# Altium integrated library Xilinx Virtex-II Pro X.IntLib: 24 symbols (part 12 of 18)
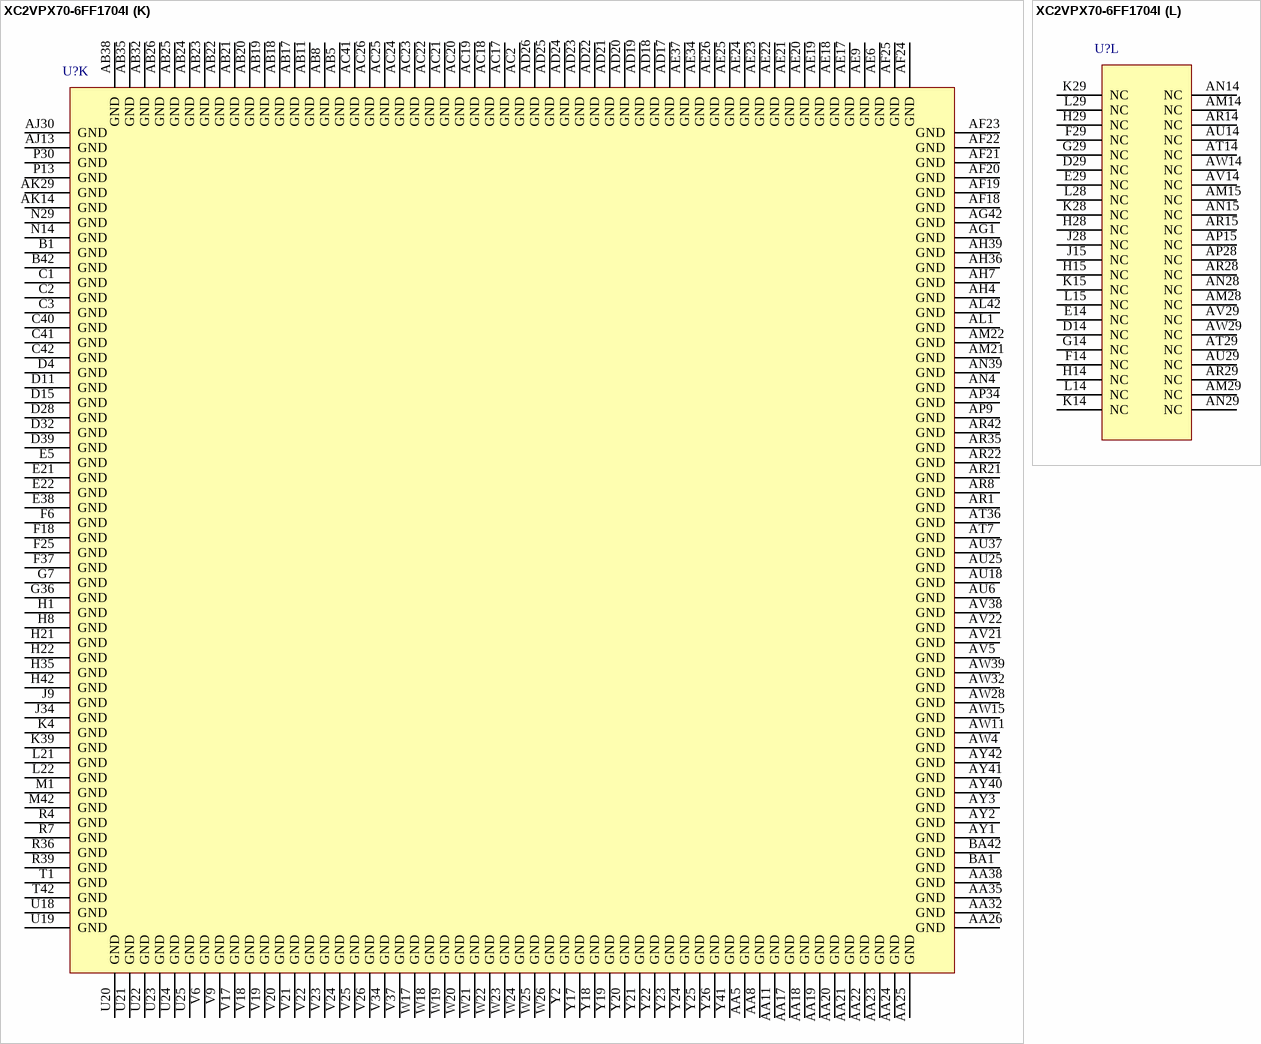
[diagram p166: symbol XC2VPX70-6FF1704I]

## XC2VPX70-6FF1704I
designator U?
Virtex-II Pro X Platform FPGA, 1704-Ball FFBGA, Speed Grade 6, 992 User I/Os, Industrial Grade; User_I/Os: 992; Published: 19-Mar-2004; LatestRevisionDate: 13-Apr-2006; LatestRevisionNote: IPC-7351 Footprint Added.; DatasheetVersion: ver4.5, Oct-2005; PackageVersion: ver1.0, Oct-2002; PackageReference: FF1704; Publisher: Altium Limited; PackageDescription: 1704-Ball Flip Chip Fine Pitch Ball Grid Array (FF1704); Code_JEDEC: MS-034-AAV-1 (Depopulated); ComponentLink1Description: Manufacturer Link; ComponentLink1URL: http://www.xilinx.com/products/silicon_solutions/fpgas/virtex/virtex_ii_pro_fpgas/index.htm; ComponentLink2Description: Datasheet; ComponentLink2URL: http://direct.xilinx.com/bvdocs/publications/ds083.pdf
footprint FF1704 (BGA, 1704-Leads, Body 42.5x42.5mm, Pitch 1mm)
3D model XC2VPX70-FF1704 (1704-Ball Flip Chip Fine Pitch Ball Grid Array (FF1704))
signal-integrity model XC2VPX70_FF1704 (Virtex-II Pro X)
part A pins: C23 IO_L73N_0 (io), C24 IO_L65P_0 (io), C25 IO_L57N_0 (io), C26 IO_L57P_0/VREF_0 (io), C28 IO_L38P_0 (io), C29 IO_L38N_0 (io), C30 IO_L35P_0 (io), C32 IO_L20P_0 (io), C33 IO_L20N_0 (io), C34 IO_L03N_0 (io), D23 IO_L73P_0 (io), D24 IO_L65N_0 (io), D25 VCCO_0 (power), D26 IO_L53_0/No_Pair (io), D27 IO_L50_0/No_Pair (io), D30 IO_L35N_0 (io), D31 IO_L27N_0 (io), D33 IO_L08P_0 (io), D34 IO_L03P_0/VREF_0 (io), E23 IO_L69N_0 (io), E24 IO_L64N_0 (io), E25 IO_L56P_0 (io), E26 IO_L56N_0 (io), E27 IO_L45N_0 (io), E28 IO_L37N_0 (io), E30 IO_L34N_0 (io), E31 IO_L27P_0/VREF_0 (io), E32 IO_L19N_0 (io), E33 IO_L08N_0 (io), E34 IO_L02P_0 (io), F23 IO_L69P_0/VREF_0 (io), F24 IO_L64P_0 (io), F26 IO_L49N_0 (io), F27 IO_L45P_0/VREF_0 (io), F28 IO_L37P_0 (io), F30 IO_L34P_0 (io), F31 IO_L26P_0 (io), F32 IO_L19P_0 (io), F33 IO_L07N_0 (io), F34 IO_L02N_0 (io), G23 VCCO_0 (power), G24 IO_L60N_0 (io), G25 IO_L55N_0 (io), G26 IO_L49P_0 (io), G27 IO_L44P_0 (io), G28 VCCO_0 (power), G30 IO_L30N_0 (io), G31 IO_L26N_0 (io), G32 VCCO_0 (power), G33 IO_L07P_0 (io), G34 IO_L01N_0/VRP_0 (io), H23 IO_L68P_0 (io), H24 IO_L60P_0 (io), H25 IO_L55P_0 (io), H26 IO_L48N_0 (io), H27 IO_L44N_0 (io), H30 IO_L30P_0 (io), H31 IO_L25N_0 (io), H32 IO_L09N_0 (io), H33 IO_L06N_0 (io), H34 IO_L01P_0/VRN_0 (io), J22 IO_L74P_0/GCLK6S (io), J23 IO_L68N_0 (io), J24 IO_L59N_0 (io), J25 VCCO_0 (power), J26 IO_L48P_0 (io), J27 IO_L43N_0 (io), J29 VCCO_0 (power), J30 IO_L29N_0 (io), J31 IO_L25P_0 (io), J32 IO_L09P_0/VREF_0 (io), J33 IO_L06P_0 (io), K22 IO_L74N_0/GCLK7P (io), K23 IO_L67N_0 (io), K24 IO_L59P_0 (io), K25 IO_L54N_0 (io), K26 IO_L47P_0 (io), K27 IO_L43P_0 (io), K30 IO_L29P_0 (io), K31 IO_L21N_0 (io), K32 IO_L05_0/No_Pair (io), L23 IO_L67P_0 (io), L24 IO_L58N_0 (io), L25 IO_L54P_0 (io), L26 IO_L47N_0 (io), L27 IO_L39N_0 (io), L30 IO_L28N_0 (io), L31 IO_L21P_0 (io), M22 IO_L66N_0 (io), M23 IO_L66P_0/VREF_0 (io), M24 IO_L58P_0 (io), M25 IO_L46N_0 (io), M26 IO_L46P_0 (io), M27 IO_L39P_0 (io), M28 IO_L36N_0 (io), M29 IO_L36P_0/VREF_0 (io), M30 IO_L28P_0 (io), P22 VCCO_0 (power), P23 VCCO_0 (power), P24 VCCO_0 (power), P25 VCCO_0 (power), P26 VCCO_0 (power), R22 VCCO_0 (power), R23 VCCO_0 (power), R24 VCCO_0 (power), R25 VCCO_0 (power)
part B pins: C9 IO_L03P_1 (io), C10 IO_L20P_1 (io), C11 IO_L20N_1 (io), C13 IO_L35N_1 (io), C14 IO_L38P_1 (io), C15 IO_L38N_1 (io), C17 IO_L57N_1/VREF_1 (io), C18 IO_L57P_1 (io), C19 IO_L65N_1 (io), C20 IO_L73P_1 (io), D9 IO_L03N_1/VREF_1 (io), D10 IO_L08N_1 (io), D12 IO_L27P_1 (io), D13 IO_L35P_1 (io), D16 IO_L50_1/No_Pair (io), D17 IO_L53_1/No_Pair (io), D18 VCCO_1 (power), D19 IO_L65P_1 (io), D20 IO_L73N_1 (io), E9 IO_L02N_1 (io), E10 IO_L08P_1 (io), E11 IO_L19P_1 (io), E12 IO_L27N_1/VREF_1 (io), E13 IO_L34P_1 (io), E15 IO_L37P_1 (io), E16 IO_L45P_1 (io), E17 IO_L56P_1 (io), E18 IO_L56N_1 (io), E19 IO_L64P_1 (io), E20 IO_L69P_1 (io), F9 IO_L02P_1 (io), F10 IO_L07P_1 (io), F11 IO_L19N_1 (io), F12 IO_L26N_1 (io), F13 IO_L34N_1 (io), F15 IO_L37N_1 (io), F17 IO_L49P_1 (io), F19 IO_L64N_1 (io), F20 IO_L69N_1/VREF_1 (io), F21 IO_L75P_1/GCLK2S (io), G9 IO_L01P_1/VRN_1 (io), G10 IO_L07N_1 (io), G11 VCCO_1 (power), G12 IO_L26P_1 (io), G13 IO_L30P_1 (io), G15 VCCO_1 (power), G17 IO_L49N_1 (io), G18 IO_L55P_1 (io), G19 IO_L60P_1 (io), G20 VCCO_1 (power), G21 IO_L75N_1/GCLK3P (io), H9 IO_L01N_1/VRP_1 (io), H10 IO_L06P_1 (io), H11 IO_L09P_1 (io), H12 IO_L25P_1 (io), H13 IO_L30N_1 (io), H16 IO_L44P_1 (io), H17 IO_L48P_1 (io), H18 IO_L55N_1 (io), H19 IO_L60N_1 (io), H20 IO_L68N_1 (io), J10 IO_L06N_1 (io), J11 IO_L09N_1/VREF_1 (io), J12 IO_L25N_1 (io), J13 IO_L29P_1 (io), J14 VCCO_1 (power), J16 IO_L43P_1 (io), J17 IO_L48N_1 (io), J18 VCCO_1 (power), J19 IO_L59P_1 (io), J20 IO_L68P_1 (io), J21 IO_L74N_1/GCLK1P (io), K11 IO_L05_1/No_Pair (io), K12 IO_L21P_1 (io), K13 IO_L29N_1 (io), K16 IO_L43N_1 (io), K17 IO_L47N_1 (io), K18 IO_L54P_1 (io), K19 IO_L59N_1 (io), K20 IO_L67P_1 (io), K21 IO_L74P_1/GCLK0S (io), L12 IO_L21N_1 (io), L13 IO_L28P_1 (io), L16 IO_L39P_1 (io), L17 IO_L47P_1 (io), L18 IO_L54N_1 (io), L19 IO_L58P_1 (io), L20 IO_L67N_1 (io), M13 IO_L28N_1 (io), M14 IO_L36N_1/VREF_1 (io), M15 IO_L36P_1 (io), M16 IO_L39N_1 (io), M17 IO_L46N_1 (io), M18 IO_L46P_1 (io), M19 IO_L58N_1 (io), M20 IO_L66N_1/VREF_1 (io), M21 IO_L66P_1 (io), P17 VCCO_1 (power), P18 VCCO_1 (power), P19 VCCO_1 (power), P20 VCCO_1 (power), P21 VCCO_1 (power), R18 VCCO_1 (power), R19 VCCO_1 (power), R20 VCCO_1 (power), R21 VCCO_1 (power)
part C pins: AA3 IO_L90N_2 (io), AA4 IO_L90P_2 (io), AA6 IO_L88N_2/VREF_2 (io), AA7 IO_L88P_2 (io), AA9 IO_L87N_2 (io), AA10 IO_L87P_2 (io), AA12 IO_L89N_2 (io), AA14 VCCO_2 (power), AA15 VCCO_2 (power), AB12 IO_L89P_2 (io), C5 IO_L01N_2/VRP_2 (io), C6 IO_L01P_2/VRN_2 (io), D1 IO_L06N_2 (io), D2 IO_L06P_2 (io), D3 IO_L05N_2 (io), D6 IO_L03P_2 (io), D7 IO_L02P_2 (io), E1 IO_L73N_2 (io), E2 IO_L73P_2 (io), E3 IO_L05P_2 (io), E6 IO_L03N_2 (io), E7 IO_L02N_2 (io), F1 IO_L75N_2 (io), F2 IO_L75P_2 (io), F3 IO_L74P_2 (io), F4 IO_L74N_2 (io), F5 VCCO_2 (power), F7 IO_L04P_2 (io), G1 IO_L77P_2 (io), G2 IO_L77N_2 (io), G3 IO_L76N_2/VREF_2 (io), G4 IO_L76P_2 (io), G5 IO_L78N_2 (io), G6 IO_L04N_2/VREF_2 (io), H2 IO_L80P_2 (io), H3 IO_L80N_2 (io), H4 IO_L79N_2 (io), H5 IO_L79P_2 (io), H6 IO_L78P_2 (io), H7 IO_L81N_2 (io), J1 IO_L84N_2 (io), J2 IO_L84P_2 (io), J3 VCCO_2 (power), J4 IO_L83P_2 (io), J5 IO_L83N_2 (io), J6 IO_L82N_2/VREF_2 (io), J7 IO_L82P_2 (io), J8 IO_L81P_2 (io), K1 IO_L10P_2 (io), K2 IO_L10N_2/VREF_2 (io), K3 IO_L13N_2 (io), K5 IO_L08P_2 (io), K6 IO_L08N_2 (io), K7 IO_L09P_2 (io), K8 IO_L09N_2 (io), K9 IO_L07N_2 (io), L1 IO_L15N_2 (io), L2 IO_L15P_2 (io), L3 IO_L13P_2 (io), L4 IO_L14P_2 (io), L5 IO_L14N_2 (io), L6 IO_L12N_2 (io), L7 IO_L12P_2 (io), L8 IO_L11N_2 (io), L9 IO_L11P_2 (io), L10 IO_L07P_2 (io), M2 IO_L19N_2 (io), M3 IO_L19P_2 (io), M4 IO_L20N_2 (io), M5 IO_L20P_2 (io), M6 VCCO_2 (power), M7 IO_L16N_2/VREF_2 (io), M8 IO_L16P_2 (io), M9 IO_L18N_2 (io), M10 IO_L18P_2 (io), M11 IO_L17N_2 (io), M12 IO_L17P_2 (io), N1 IO_L25N_2 (io), N2 IO_L25P_2 (io), N3 IO_L24N_2 (io), N4 IO_L24P_2 (io), N5 IO_L22N_2/VREF_2 (io), N6 IO_L22P_2 (io), N7 IO_L21N_2 (io), N8 IO_L21P_2 (io), N9 IO_L23N_2 (io), N10 IO_L23P_2 (io), N11 IO_L26N_2 (io), N12 IO_L26P_2 (io), P1 IO_L31N_2 (io), P2 IO_L31P_2 (io), P3 IO_L34N_2/VREF_2 (io), P4 VCCO_2 (power), P5 IO_L30N_2 (io), P6 IO_L30P_2 (io), P7 IO_L28N_2/VREF_2 (io), P8 IO_L28P_2 (io), P9 IO_L27N_2 (io), P10 IO_L27P_2 (io), P11 IO_L29N_2 (io), P12 IO_L29P_2 (io), R1 IO_L35N_2 (io), R2 IO_L35P_2 (io), R3 IO_L34P_2 (io), R5 IO_L33N_2 (io), R6 IO_L33P_2 (io), R8 IO_L38P_2 (io), R9 IO_L32N_2 (io), R10 IO_L32P_2 (io), R11 IO_L36N_2 (io), R12 IO_L36P_2 (io), R14 VCCO_2 (power), T2 IO_L40N_2/VREF_2 (io), T3 IO_L40P_2 (io), T4 IO_L39N_2 (io), T5 IO_L39P_2 (io), T6 IO_L37N_2 (io), T7 IO_L37P_2 (io), T8 IO_L38N_2 (io), T9 VCCO_2 (power), T10 IO_L41N_2 (io), T11 IO_L41P_2 (io), T12 IO_L47N_2 (io), T14 VCCO_2 (power), T15 VCCO_2 (power), U1 IO_L46N_2/VREF_2 (io), U2 IO_L46P_2 (io), U3 IO_L45N_2 (io), U4 IO_L45P_2 (io), U5 IO_L43N_2 (io), U6 IO_L43P_2 (io), U7 IO_L42N_2 (io), U8 IO_L42P_2 (io), U9 IO_L44N_2 (io), U10 IO_L44P_2 (io), U11 IO_L50N_2 (io), U12 IO_L47P_2 (io), U14 VCCO_2 (power), U15 VCCO_2 (power), V1 IO_L52N_2/VREF_2 (io), V2 IO_L52P_2 (io), V3 VCCO_2 (power), V4 IO_L51N_2 (io), V5 IO_L51P_2 (io), V7 IO_L49N_2 (io), V8 IO_L49P_2 (io), V10 IO_L48N_2 (io), V11 IO_L48P_2 (io), V12 IO_L50P_2 (io), V14 VCCO_2 (power), V15 VCCO_2 (power), W1 IO_L58N_2/VREF_2 (io), W2 IO_L58P_2 (io), W3 IO_L57N_2 (io), W4 IO_L57P_2 (io), W5 IO_L55N_2 (io), W6 IO_L55P_2 (io), W7 IO_L54N_2 (io), W8 IO_L54P_2 (io), W9 IO_L53N_2 (io), W10 IO_L53P_2 (io), W11 IO_L56N_2 (io), W12 IO_L56P_2 (io), W14 VCCO_2 (power), W15 VCCO_2 (power), Y3 IO_L85N_2 (io), Y4 IO_L85P_2 (io), Y5 VCCO_2 (power), Y6 IO_L60N_2 (io), Y7 IO_L60P_2 (io), Y8 VCCO_2 (power), Y9 IO_L59N_2 (io), Y10 IO_L59P_2 (io), Y11 IO_L86N_2 (io), Y12 IO_L86P_2 (io), Y14 VCCO_2 (power), Y15 VCCO_2 (power)
part D pins: AB3 IO_L90N_3 (io), AB4 IO_L90P_3 (io), AB6 IO_L89N_3 (io), AB7 IO_L89P_3 (io), AB9 IO_L88N_3 (io), AB10 IO_L88P_3 (io), AB14 VCCO_3 (power), AB15 VCCO_3 (power), AC3 IO_L87N_3/VREF_3 (io), AC4 IO_L87P_3 (io), AC5 VCCO_3 (power), AC6 IO_L85N_3 (io), AC7 IO_L85P_3 (io), AC8 VCCO_3 (power), AC9 IO_L60N_3 (io), AC10 IO_L60P_3 (io), AC11 IO_L86N_3 (io), AC12 IO_L86P_3 (io), AC14 VCCO_3 (power), AC15 VCCO_3 (power), AD1 IO_L58N_3 (io), AD2 IO_L58P_3 (io), AD3 IO_L57N_3/VREF_3 (io), AD4 IO_L57P_3 (io), AD5 IO_L55N_3 (io), AD6 IO_L55P_3 (io), AD7 IO_L54N_3 (io), AD8 IO_L54P_3 (io), AD9 IO_L59N_3 (io), AD10 IO_L59P_3 (io), AD11 IO_L56N_3 (io), AD12 IO_L56P_3 (io), AD14 VCCO_3 (power), AD15 VCCO_3 (power), AE1 IO_L52N_3 (io), AE2 IO_L52P_3 (io), AE3 VCCO_3 (power), AE4 IO_L51N_3/VREF_3 (io), AE5 IO_L51P_3 (io), AE7 IO_L49N_3 (io), AE8 IO_L49P_3 (io), AE10 IO_L53N_3 (io), AE11 IO_L53P_3 (io), AE12 IO_L50P_3 (io), AE14 VCCO_3 (power), AE15 VCCO_3 (power), AF1 IO_L48N_3 (io), AF2 IO_L48P_3 (io), AF3 IO_L46N_3 (io), AF4 IO_L46P_3 (io), AF5 IO_L45N_3/VREF_3 (io), AF6 IO_L45P_3 (io), AF7 IO_L44N_3 (io), AF8 IO_L44P_3 (io), AF9 IO_L43N_3 (io), AF10 IO_L43P_3 (io), AF11 IO_L50N_3 (io), AF12 IO_L47P_3 (io), AF14 VCCO_3 (power), AF15 VCCO_3 (power), AG2 IO_L42N_3 (io), AG3 IO_L42P_3 (io), AG4 IO_L40N_3 (io), AG5 IO_L40P_3 (io), AG6 IO_L39N_3/VREF_3 (io), AG7 IO_L39P_3 (io), AG8 IO_L38N_3 (io), AG9 VCCO_3 (power), AG10 IO_L41N_3 (io), AG11 IO_L41P_3 (io), AG12 IO_L47N_3 (io), AG14 VCCO_3 (power), AG15 VCCO_3 (power), AH1 IO_L37N_3 (io), AH2 IO_L37P_3 (io), AH3 IO_L36N_3 (io), AH5 IO_L34N_3 (io), AH6 IO_L34P_3 (io), AH8 IO_L38P_3 (io), AH9 IO_L33N_3/VREF_3 (io), AH10 IO_L33P_3 (io), AH11 IO_L35N_3 (io), AH12 IO_L35P_3 (io), AH14 VCCO_3 (power), AJ1 IO_L31N_3 (io), AJ2 IO_L31P_3 (io), AJ3 IO_L36P_3 (io), AJ4 VCCO_3 (power), AJ5 IO_L30N_3 (io), AJ6 IO_L30P_3 (io), AJ7 IO_L28N_3 (io), AJ8 IO_L28P_3 (io), AJ9 IO_L29N_3 (io), AJ10 IO_L29P_3 (io), AJ11 IO_L32N_3 (io), AJ12 IO_L32P_3 (io), AK1 IO_L27N_3/VREF_3 (io), AK2 IO_L27P_3 (io), AK3 IO_L25N_3 (io), AK4 IO_L25P_3 (io), AK5 IO_L24N_3 (io), AK6 IO_L24P_3 (io), AK7 IO_L22N_3 (io), AK8 IO_L22P_3 (io), AK9 IO_L23N_3 (io), AK10 IO_L23P_3 (io), AK11 IO_L26N_3 (io), AK12 IO_L26P_3 (io), AL2 IO_L21N_3/VREF_3 (io), AL3 IO_L21P_3 (io), AL4 IO_L19N_3 (io), AL5 IO_L19P_3 (io), AL6 VCCO_3 (power), AL7 IO_L18N_3 (io), AL8 IO_L18P_3 (io), AL9 IO_L17N_3 (io), AL10 IO_L17P_3 (io), AL11 IO_L20N_3 (io), AL12 IO_L20P_3 (io), AM1 IO_L16N_3 (io), AM2 IO_L16P_3 (io), AM3 IO_L15N_3/VREF_3 (io), AM4 IO_L13N_3 (io), AM5 IO_L13P_3 (io), AM6 IO_L12N_3 (io), AM7 IO_L12P_3 (io), AM8 IO_L14N_3 (io), AM9 IO_L14P_3 (io), AM10 IO_L11P_3 (io), AN1 IO_L10N_3 (io), AN2 IO_L10P_3 (io), AN3 IO_L15P_3 (io), AN5 IO_L09N_3/VREF_3 (io), AN6 IO_L09P_3 (io), AN7 IO_L08N_3 (io), AN8 IO_L08P_3 (io), AN9 IO_L11N_3 (io), AP1 IO_L07N_3 (io), AP2 IO_L07P_3 (io), AP3 VCCO_3 (power), AP4 IO_L84N_3 (io), AP5 IO_L84P_3 (io), AP6 IO_L82N_3 (io), AP7 IO_L82P_3 (io), AP8 IO_L83P_3 (io), AR2 IO_L81N_3/VREF_3 (io), AR3 IO_L81P_3 (io), AR4 IO_L79N_3 (io), AR5 IO_L79P_3 (io), AR6 IO_L80P_3 (io), AR7 IO_L83N_3 (io), AT1 IO_L78N_3 (io), AT2 IO_L78P_3 (io), AT3 IO_L77N_3 (io), AT4 IO_L77P_3 (io), AT5 IO_L80N_3 (io), AT6 IO_L04N_3 (io), AT8 IO_L05N_3 (io), AU1 IO_L76N_3 (io), AU2 IO_L76P_3 (io), AU3 IO_L75N_3/VREF_3 (io), AU4 IO_L75P_3 (io), AU5 VCCO_3 (power), AU7 IO_L04P_3 (io), AU8 IO_L05P_3 (io), AV1 IO_L73N_3 (io), AV2 IO_L73P_3 (io), AV3 IO_L74N_3 (io), AV6 IO_L01N_3/VRP_3 (io), AV7 IO_L02N_3 (io), AW1 IO_L06N_3 (io), AW2 IO_L06P_3 (io), AW3 IO_L74P_3 (io), AW6 IO_L01P_3/VRN_3 (io), AW7 IO_L02P_3 (io), AY5 IO_L03N_3/VREF_3 (io), AY6 IO_L03P_3 (io)
part E pins: AH18 VCCO_4 (power), AH19 VCCO_4 (power), AH20 VCCO_4 (power), AH21 VCCO_4 (power), AJ17 VCCO_4 (power), AJ18 VCCO_4 (power), AJ19 VCCO_4 (power), AJ20 VCCO_4 (power), AJ21 VCCO_4 (power), AL13 IO_L28P_4 (io), AL14 IO_L36P_4/VREF_4 (io), AL15 IO_L36N_4 (io), AL16 IO_L39P_4 (io), AL17 IO_L46P_4 (io), AL18 IO_L46N_4 (io), AL19 IO_L58P_4 (io), AL20 IO_L66P_4/VREF_4 (io), AL21 IO_L66N_4 (io), AM12 IO_L21P_4 (io), AM13 IO_L28N_4 (io), AM16 IO_L39N_4 (io), AM17 IO_L47N_4 (io), AM18 IO_L54P_4 (io), AM19 IO_L58N_4 (io), AM20 IO_L67P_4 (io), AN11 IO_L05_4/No_Pair (io), AN12 IO_L21N_4 (io), AN13 IO_L29P_4 (io), AN16 IO_L43P_4 (io), AN17 IO_L47P_4 (io), AN18 IO_L54N_4 (io), AN19 IO_L59P_4 (io), AN20 IO_L67N_4 (io), AN21 IO_L74N_4/GCLK3S (io), AP10 IO_L06P_4/VRN_4 (io), AP11 IO_L09P_4/VREF_4 (io), AP12 IO_L25P_4 (io), AP13 IO_L29N_4 (io), AP14 VCCO_4 (power), AP16 IO_L43N_4 (io), AP17 IO_L48P_4 (io), AP18 VCCO_4 (power), AP19 IO_L59N_4 (io), AP20 IO_L68N_4 (io), AP21 IO_L74P_4/GCLK2P (io), AR9 IO_L01P_4/INIT_B (io), AR10 IO_L06N_4/VRP_4 (io), AR11 IO_L09N_4 (io), AR12 IO_L25N_4 (io), AR13 IO_L30P_4 (io), AR16 IO_L44N_4 (io), AR17 IO_L48N_4 (io), AR18 IO_L55P_4 (io), AR19 IO_L60P_4 (io), AR20 IO_L68P_4 (io), AT9 IO_L01N_4/DOUT (io), AT10 IO_L07P_4/VREF_4 (io), AT11 VCCO_4 (power), AT12 IO_L26N_4 (io), AT13 IO_L30N_4 (io), AT15 VCCO_4 (power), AT16 IO_L44P_4 (io), AT17 IO_L49P_4 (io), AT18 IO_L55N_4 (io), AT19 IO_L60N_4 (io), AT20 VCCO_4 (power), AT21 IO_L75P_4/GCLK0P (io), AU9 IO_L02N_4/D0 (io), AU10 IO_L07N_4 (io), AU11 IO_L19P_4 (io), AU12 IO_L26P_4 (io), AU13 IO_L34P_4 (io), AU15 IO_L37P_4 (io), AU16 IO_L45P_4/VREF_4 (io), AU17 IO_L49N_4 (io), AU19 IO_L64P_4 (io), AU20 IO_L69P_4/VREF_4 (io), AU21 IO_L75N_4/GCLK1S (io), AV9 IO_L02P_4/D1 (io), AV10 IO_L08N_4 (io), AV11 IO_L19N_4 (io), AV12 IO_L27P_4/VREF_4 (io), AV13 IO_L34N_4 (io), AV15 IO_L37N_4 (io), AV16 IO_L45N_4 (io), AV17 IO_L56N_4 (io), AV18 IO_L56P_4 (io), AV19 IO_L64N_4 (io), AV20 IO_L69N_4 (io), AW9 IO_L03P_4/D3 (io), AW10 IO_L08P_4 (io), AW12 IO_L27N_4 (io), AW13 IO_L35N_4 (io), AW16 IO_L50_4/No_Pair (io), AW17 IO_L53_4/No_Pair (io), AW18 VCCO_4 (power), AW19 IO_L65N_4 (io), AW20 IO_L73P_4 (io), AY9 IO_L03N_4/D2 (io), AY10 IO_L20N_4 (io), AY11 IO_L20P_4 (io), AY13 IO_L35P_4 (io), AY14 IO_L38N_4 (io), AY15 IO_L38P_4 (io), AY17 IO_L57P_4/VREF_4 (io), AY18 IO_L57N_4 (io), AY19 IO_L65P_4 (io), AY20 IO_L73N_4 (io)
part F pins: AH22 VCCO_5 (power), AH23 VCCO_5 (power), AH24 VCCO_5 (power), AH25 VCCO_5 (power), AJ22 VCCO_5 (power), AJ23 VCCO_5 (power), AJ24 VCCO_5 (power), AJ25 VCCO_5 (power), AJ26 VCCO_5 (power), AL22 IO_L66P_5 (io), AL23 IO_L66N_5/VREF_5 (io), AL24 IO_L58N_5 (io), AL25 IO_L46P_5 (io), AL26 IO_L46N_5 (io), AL27 IO_L39N_5 (io), AL28 IO_L36P_5 (io), AL29 IO_L36N_5/VREF_5 (io), AL30 IO_L28N_5 (io), AM23 IO_L67N_5 (io), AM24 IO_L58P_5 (io), AM25 IO_L54N_5 (io), AM26 IO_L47P_5 (io), AM27 IO_L39P_5 (io), AM30 IO_L28P_5 (io), AM31 IO_L21N_5 (io), AN22 IO_L74P_5/GCLK4P (io), AN23 IO_L67P_5 (io), AN24 IO_L59N_5 (io), AN25 IO_L54P_5 (io), AN26 IO_L47N_5 (io), AN27 IO_L43N_5 (io), AN30 IO_L29N_5 (io), AN31 IO_L21P_5 (io), AN32 IO_L05_5/No_Pair (io), AP22 IO_L74N_5/GCLK5S (io), AP23 IO_L68P_5 (io), AP24 IO_L59P_5 (io), AP25 VCCO_5 (power), AP26 IO_L48N_5 (io), AP27 IO_L43P_5 (io), AP29 VCCO_5 (power), AP30 IO_L29P_5 (io), AP31 IO_L25N_5 (io), AP32 IO_L09N_5/VREF_5 (io), AP33 IO_L06N_5/VRP_5 (io), AR23 IO_L68N_5 (io), AR24 IO_L60N_5 (io), AR25 IO_L55N_5 (io), AR26 IO_L48P_5 (io), AR27 IO_L44P_5 (io), AR30 IO_L30N_5 (io), AR31 IO_L25P_5 (io), AR32 IO_L09P_5 (io), AR33 IO_L06P_5/VRN_5 (io), AR34 IO_L01N_5/RDWR_B (io), AT23 VCCO_5 (power), AT24 IO_L60P_5 (io), AT25 IO_L55P_5 (io), AT26 IO_L49N_5 (io), AT27 IO_L44N_5 (io), AT28 VCCO_5 (power), AT30 IO_L30P_5 (io), AT31 IO_L26P_5 (io), AT32 VCCO_5 (power), AT33 IO_L07N_5/VREF_5 (io), AT34 IO_L01P_5/CS_B (io), AU23 IO_L69N_5/VREF_5 (io), AU24 IO_L64N_5 (io), AU26 IO_L49P_5 (io), AU27 IO_L45N_5/VREF_5 (io), AU28 IO_L37N_5 (io), AU30 IO_L34N_5 (io), AU31 IO_L26N_5 (io), AU32 IO_L19N_5 (io), AU33 IO_L07P_5 (io), AU34 IO_L02P_5/D7 (io), AV23 IO_L69P_5 (io), AV24 IO_L64P_5 (io), AV25 IO_L56N_5 (io), AV26 IO_L56P_5 (io), AV27 IO_L45P_5 (io), AV28 IO_L37P_5 (io), AV30 IO_L34P_5 (io), AV31 IO_L27N_5/VREF_5 (io), AV32 IO_L19P_5 (io), AV33 IO_L08P_5 (io), AV34 IO_L02N_5/D6 (io), AW23 IO_L73N_5 (io), AW24 IO_L65P_5 (io), AW25 VCCO_5 (power), AW26 IO_L53_5/No_Pair (io), AW27 IO_L50_5/No_Pair (io), AW30 IO_L35P_5 (io), AW31 IO_L27P_5 (io), AW33 IO_L08N_5 (io), AW34 IO_L03N_5/D4 (io), AY23 IO_L73P_5 (io), AY24 IO_L65N_5 (io), AY25 IO_L57P_5 (io), AY26 IO_L57N_5/VREF_5 (io), AY28 IO_L38N_5 (io), AY29 IO_L38P_5 (io), AY30 IO_L35N_5 (io), AY32 IO_L20N_5 (io), AY33 IO_L20P_5 (io), AY34 IO_L03P_5/D5 (io)
part G pins: AB28 VCCO_6 (power), AB29 VCCO_6 (power), AB33 IO_L88P_6 (io), AB34 IO_L88N_6 (io), AB36 IO_L89P_6 (io), AB37 IO_L89N_6 (io), AB39 IO_L90P_6 (io), AB40 IO_L90N_6 (io), AC28 VCCO_6 (power), AC29 VCCO_6 (power), AC31 IO_L86P_6 (io), AC32 IO_L86N_6 (io), AC33 IO_L60P_6 (io), AC34 IO_L60N_6 (io), AC35 VCCO_6 (power), AC36 IO_L85P_6 (io), AC37 IO_L85N_6 (io), AC38 VCCO_6 (power), AC39 IO_L87P_6 (io), AC40 IO_L87N_6/VREF_6 (io), AD28 VCCO_6 (power), AD29 VCCO_6 (power), AD31 IO_L56P_6 (io), AD32 IO_L56N_6 (io), AD33 IO_L59P_6 (io), AD34 IO_L59N_6 (io), AD35 IO_L54P_6 (io), AD36 IO_L54N_6 (io), AD37 IO_L55P_6 (io), AD38 IO_L55N_6 (io), AD39 IO_L57P_6 (io), AD40 IO_L57N_6/VREF_6 (io), AD41 IO_L58P_6 (io), AD42 IO_L58N_6 (io), AE28 VCCO_6 (power), AE29 VCCO_6 (power), AE31 IO_L50P_6 (io), AE32 IO_L53P_6 (io), AE33 IO_L53N_6 (io), AE35 IO_L49P_6 (io), AE36 IO_L49N_6 (io), AE38 IO_L51P_6 (io), AE39 IO_L51N_6/VREF_6 (io), AE40 VCCO_6 (power), AE41 IO_L52P_6 (io), AE42 IO_L52N_6 (io), AF28 VCCO_6 (power), AF29 VCCO_6 (power), AF31 IO_L47P_6 (io), AF32 IO_L50N_6 (io), AF33 IO_L43P_6 (io), AF34 IO_L43N_6 (io), AF35 IO_L44P_6 (io), AF36 IO_L44N_6 (io), AF37 IO_L45P_6 (io), AF38 IO_L45N_6/VREF_6 (io), AF39 IO_L46P_6 (io), AF40 IO_L46N_6 (io), AF41 IO_L48P_6 (io), AF42 IO_L48N_6 (io), AG28 VCCO_6 (power), AG29 VCCO_6 (power), AG31 IO_L47N_6 (io), AG32 IO_L41P_6 (io), AG33 IO_L41N_6 (io), AG34 VCCO_6 (power), AG35 IO_L38N_6 (io), AG36 IO_L39P_6 (io), AG37 IO_L39N_6/VREF_6 (io), AG38 IO_L40P_6 (io), AG39 IO_L40N_6 (io), AG40 IO_L42P_6 (io), AG41 IO_L42N_6 (io), AH29 VCCO_6 (power), AH31 IO_L35P_6 (io), AH32 IO_L35N_6 (io), AH33 IO_L33P_6 (io), AH34 IO_L33N_6/VREF_6 (io), AH35 IO_L38P_6 (io), AH37 IO_L34P_6 (io), AH38 IO_L34N_6 (io), AH40 IO_L36N_6 (io), AH41 IO_L37P_6 (io), AH42 IO_L37N_6 (io), AJ31 IO_L32P_6 (io), AJ32 IO_L32N_6 (io), AJ33 IO_L29P_6 (io), AJ34 IO_L29N_6 (io), AJ35 IO_L28P_6 (io), AJ36 IO_L28N_6 (io), AJ37 IO_L30P_6 (io), AJ38 IO_L30N_6 (io), AJ39 VCCO_6 (power), AJ40 IO_L36P_6 (io), AJ41 IO_L31P_6 (io), AJ42 IO_L31N_6 (io), AK31 IO_L26P_6 (io), AK32 IO_L26N_6 (io), AK33 IO_L23P_6 (io), AK34 IO_L23N_6 (io), AK35 IO_L22P_6 (io), AK36 IO_L22N_6 (io), AK37 IO_L24P_6 (io), AK38 IO_L24N_6 (io), AK39 IO_L25P_6 (io), AK40 IO_L25N_6 (io), AK41 IO_L27P_6 (io), AK42 IO_L27N_6/VREF_6 (io), AL31 IO_L20P_6 (io), AL32 IO_L20N_6 (io), AL33 IO_L17P_6 (io), AL34 IO_L17N_6 (io), AL35 IO_L18P_6 (io), AL36 IO_L18N_6 (io), AL37 VCCO_6 (power), AL38 IO_L19P_6 (io), AL39 IO_L19N_6 (io), AL40 IO_L21P_6 (io), AL41 IO_L21N_6/VREF_6 (io), AM33 IO_L11P_6 (io), AM34 IO_L14P_6 (io), AM35 IO_L14N_6 (io), AM36 IO_L12P_6 (io), AM37 IO_L12N_6 (io), AM38 IO_L13P_6 (io), AM39 IO_L13N_6 (io), AM40 IO_L15N_6/VREF_6 (io), AM41 IO_L16P_6 (io), AM42 IO_L16N_6 (io), AN34 IO_L11N_6 (io), AN35 IO_L08P_6 (io), AN36 IO_L08N_6 (io), AN37 IO_L09P_6 (io), AN38 IO_L09N_6/VREF_6 (io), AN40 IO_L15P_6 (io), AN41 IO_L10P_6 (io), AN42 IO_L10N_6 (io), AP35 IO_L83P_6 (io), AP36 IO_L82P_6 (io), AP37 IO_L82N_6 (io), AP38 IO_L84P_6 (io), AP39 IO_L84N_6 (io), AP40 VCCO_6 (power), AP41 IO_L07P_6 (io), AP42 IO_L07N_6 (io), AR36 IO_L83N_6 (io), AR37 IO_L80P_6 (io), AR38 IO_L79P_6 (io), AR39 IO_L79N_6 (io), AR40 IO_L81P_6 (io), AR41 IO_L81N_6/VREF_6 (io), AT35 IO_L05N_6 (io), AT37 IO_L04N_6 (io), AT38 IO_L80N_6 (io), AT39 IO_L77P_6 (io), AT40 IO_L77N_6 (io), AT41 IO_L78P_6 (io), AT42 IO_L78N_6 (io), AU35 IO_L05P_6 (io), AU36 IO_L04P_6 (io), AU38 VCCO_6 (power), AU39 IO_L75P_6 (io), AU40 IO_L75N_6/VREF_6 (io), AU41 IO_L76P_6 (io), AU42 IO_L76N_6 (io), AV36 IO_L02N_6 (io), AV37 IO_L01N_6/VRP_6 (io), AV40 IO_L74N_6 (io), AV41 IO_L73P_6 (io), AV42 IO_L73N_6 (io), AW36 IO_L02P_6 (io), AW37 IO_L01P_6/VRN_6 (io), AW40 IO_L74P_6 (io), AW41 IO_L06P_6 (io), AW42 IO_L06N_6 (io), AY37 IO_L03P_6 (io), AY38 IO_L03N_6/VREF_6 (io)
part H pins: AA28 VCCO_7 (power), AA29 VCCO_7 (power), AA31 IO_L89N_7 (io), AA33 IO_L87P_7 (io), AA34 IO_L87N_7 (io), AA36 IO_L88P_7 (io), AA37 IO_L88N_7/VREF_7 (io), AA39 IO_L90P_7 (io), AA40 IO_L90N_7 (io), AB31 IO_L89P_7 (io), C37 IO_L01P_7/VRN_7 (io), C38 IO_L01N_7/VRP_7 (io), D36 IO_L02P_7 (io), D37 IO_L03P_7 (io), D40 IO_L05N_7 (io), D41 IO_L06P_7 (io), D42 IO_L06N_7 (io), E36 IO_L02N_7 (io), E37 IO_L03N_7 (io), E40 IO_L05P_7 (io), E41 IO_L73P_7 (io), E42 IO_L73N_7 (io), F36 IO_L04P_7 (io), F38 VCCO_7 (power), F39 IO_L74N_7 (io), F40 IO_L74P_7 (io), F41 IO_L75P_7 (io), F42 IO_L75N_7 (io), G37 IO_L04N_7/VREF_7 (io), G38 IO_L78N_7 (io), G39 IO_L76P_7 (io), G40 IO_L76N_7/VREF_7 (io), G41 IO_L77N_7 (io), G42 IO_L77P_7 (io), H36 IO_L81N_7 (io), H37 IO_L78P_7 (io), H38 IO_L79P_7 (io), H39 IO_L79N_7 (io), H40 IO_L80N_7 (io), H41 IO_L80P_7 (io), J35 IO_L81P_7 (io), J36 IO_L82P_7 (io), J37 IO_L82N_7/VREF_7 (io), J38 IO_L83N_7 (io), J39 IO_L83P_7 (io), J40 VCCO_7 (power), J41 IO_L84P_7 (io), J42 IO_L84N_7 (io), K34 IO_L07N_7 (io), K35 IO_L09N_7 (io), K36 IO_L09P_7 (io), K37 IO_L08N_7 (io), K38 IO_L08P_7 (io), K40 IO_L13N_7 (io), K41 IO_L10N_7/VREF_7 (io), K42 IO_L10P_7 (io), L33 IO_L07P_7 (io), L34 IO_L11P_7 (io), L35 IO_L11N_7 (io), L36 IO_L12P_7 (io), L37 IO_L12N_7 (io), L38 IO_L14N_7 (io), L39 IO_L14P_7 (io), L40 IO_L13P_7 (io), L41 IO_L15P_7 (io), L42 IO_L15N_7 (io), M31 IO_L17P_7 (io), M32 IO_L17N_7 (io), M33 IO_L18P_7 (io), M34 IO_L18N_7 (io), M35 IO_L16P_7 (io), M36 IO_L16N_7/VREF_7 (io), M37 VCCO_7 (power), M38 IO_L20P_7 (io), M39 IO_L20N_7 (io), M40 IO_L19P_7 (io), M41 IO_L19N_7 (io), N31 IO_L26P_7 (io), N32 IO_L26N_7 (io), N33 IO_L23P_7 (io), N34 IO_L23N_7 (io), N35 IO_L21P_7 (io), N36 IO_L21N_7 (io), N37 IO_L22P_7 (io), N38 IO_L22N_7/VREF_7 (io), N39 IO_L24P_7 (io), N40 IO_L24N_7 (io), N41 IO_L25P_7 (io), N42 IO_L25N_7 (io), P31 IO_L29P_7 (io), P32 IO_L29N_7 (io), P33 IO_L27P_7 (io), P34 IO_L27N_7 (io), P35 IO_L28P_7 (io), P36 IO_L28N_7/VREF_7 (io), P37 IO_L30P_7 (io), P38 IO_L30N_7 (io), P39 VCCO_7 (power), P40 IO_L34N_7/VREF_7 (io), P41 IO_L31P_7 (io), P42 IO_L31N_7 (io), R29 VCCO_7 (power), R31 IO_L36P_7 (io), R32 IO_L36N_7 (io), R33 IO_L32P_7 (io), R34 IO_L32N_7 (io), R35 IO_L38P_7 (io), R37 IO_L33P_7 (io), R38 IO_L33N_7 (io), R40 IO_L34P_7 (io), R41 IO_L35P_7 (io), R42 IO_L35N_7 (io), T28 VCCO_7 (power), T29 VCCO_7 (power), T31 IO_L47N_7 (io), T32 IO_L41P_7 (io), T33 IO_L41N_7 (io), T34 VCCO_7 (power), T35 IO_L38N_7 (io), T36 IO_L37P_7 (io), T37 IO_L37N_7 (io), T38 IO_L39P_7 (io), T39 IO_L39N_7 (io), T40 IO_L40P_7 (io), T41 IO_L40N_7/VREF_7 (io), U28 VCCO_7 (power), U29 VCCO_7 (power), U31 IO_L47P_7 (io), U32 IO_L50N_7 (io), U33 IO_L44P_7 (io), U34 IO_L44N_7 (io), U35 IO_L42P_7 (io), U36 IO_L42N_7 (io), U37 IO_L43P_7 (io), U38 IO_L43N_7 (io), U39 IO_L45P_7 (io), U40 IO_L45N_7 (io), U41 IO_L46P_7 (io), U42 IO_L46N_7/VREF_7 (io), V28 VCCO_7 (power), V29 VCCO_7 (power), V31 IO_L50P_7 (io), V32 IO_L48P_7 (io), V33 IO_L48N_7 (io), V35 IO_L49P_7 (io), V36 IO_L49N_7 (io), V38 IO_L51P_7 (io), V39 IO_L51N_7 (io), V40 VCCO_7 (power), V41 IO_L52P_7 (io), V42 IO_L52N_7/VREF_7 (io), W28 VCCO_7 (power), W29 VCCO_7 (power), W31 IO_L56P_7 (io), W32 IO_L56N_7 (io), W33 IO_L53P_7 (io), W34 IO_L53N_7 (io), W35 IO_L54P_7 (io), W36 IO_L54N_7 (io), W37 IO_L55P_7 (io), W38 IO_L55N_7 (io), W39 IO_L57P_7 (io), W40 IO_L57N_7 (io), W41 IO_L58P_7 (io), W42 IO_L58N_7/VREF_7 (io), Y28 VCCO_7 (power), Y29 VCCO_7 (power), Y31 IO_L86P_7 (io), Y32 IO_L86N_7 (io), Y33 IO_L59P_7 (io), Y34 IO_L59N_7 (io), Y35 VCCO_7 (power), Y36 IO_L60P_7 (io), Y37 IO_L60N_7 (io), Y38 VCCO_7 (power), Y39 IO_L85P_7 (io), Y40 IO_L85N_7 (io)
part I pins: A2 RXNPAD11 (in), A3 RXPPAD11 (in), A4 TXPPAD11 (hiz), A5 TXNPAD11 (hiz), A6 RXNPAD10 (in), A7 RXPPAD10 (in), A8 TXPPAD10 (hiz), A9 TXNPAD10 (hiz), A10 RXNPAD9 (in), A11 RXPPAD9 (in), A12 TXPPAD9 (hiz), A13 TXNPAD9 (hiz), A14 RXNPAD8 (in), A15 RXPPAD8 (in), A16 TXPPAD8 (hiz), A17 TXNPAD8 (hiz), A18 RXNPAD7 (in), A19 RXPPAD7 (in), A20 TXPPAD7 (hiz), A21 TXNPAD7 (hiz), A22 RXNPAD6 (in), A23 RXPPAD6 (in), A24 TXPPAD6 (hiz), A25 TXNPAD6 (hiz), A26 RXNPAD5 (in), A27 RXPPAD5 (in), A28 TXPPAD5 (hiz), A29 TXNPAD5 (hiz), A30 RXNPAD4 (in), A31 RXPPAD4 (in), A32 TXPPAD4 (hiz), A33 TXNPAD4 (hiz), A34 RXNPAD3 (in), A35 RXPPAD3 (in), A36 TXPPAD3 (hiz), A37 TXNPAD3 (hiz), A38 RXNPAD2 (in), A39 RXPPAD2 (in), A40 TXPPAD2 (hiz), A41 TXNPAD2 (hiz), AY4 GNDA14 (power), AY8 GNDA15 (power), AY12 GNDA16 (power), AY16 GNDA17 (power), AY21 GNDA18 (power), AY22 GNDA19 (power), AY27 GNDA20 (power), AY31 GNDA21 (power), AY35 GNDA22 (power), AY39 GNDA23 (power), B2 AVCCAUXRX11 (power), B3 VTRXPAD11 (power), B4 AVCCAUXTX11 (power), B5 VTTXPAD11 (power), B6 AVCCAUXRX10 (power), B7 VTRXPAD10 (power), B8 AVCCAUXTX10 (power), B9 VTTXPAD10 (power), B10 AVCCAUXRX9 (power), B11 VTRXPAD9 (power), B12 AVCCAUXTX9 (power), B13 VTTXPAD9 (power), B14 AVCCAUXRX8 (power), B15 VTRXPAD8 (power), B16 AVCCAUXTX8 (power), B17 VTTXPAD8 (power), B18 AVCCAUXRX7 (power), B19 VTRXPAD7 (power), B20 AVCCAUXTX7 (power), B21 VTTXPAD7 (power), B22 AVCCAUXRX6 (power), B23 VTRXPAD6 (power), B24 AVCCAUXTX6 (power), B25 VTTXPAD6 (power), B26 AVCCAUXRX5 (power), B27 VTRXPAD5 (power), B28 AVCCAUXTX5 (power), B29 VTTXPAD5 (power), B30 AVCCAUXRX4 (power), B31 VTRXPAD4 (power), B32 AVCCAUXTX4 (power), B33 VTTXPAD4 (power), B34 AVCCAUXRX3 (power), B35 VTRXPAD3 (power), B36 AVCCAUXTX3 (power), B37 VTTXPAD3 (power), B38 AVCCAUXRX2 (power), B39 VTRXPAD2 (power), B40 AVCCAUXTX2 (power), B41 VTTXPAD2 (power), BA2 AVCCAUXRX14 (power), BA3 VTRXPAD14 (power), BA4 AVCCAUXTX14 (power), BA5 VTTXPAD14 (power), BA6 AVCCAUXRX15 (power), BA7 VTRXPAD15 (power), BA8 AVCCAUXTX15 (power), BA9 VTTXPAD15 (power), BA10 AVCCAUXRX16 (power), BA11 VTRXPAD16 (power), BA12 AVCCAUXTX16 (power), BA13 VTTXPAD16 (power), BA14 AVCCAUXRX17 (power), BA15 VTRXPAD17 (power), BA16 AVCCAUXTX17 (power), BA17 VTTXPAD17 (power), BA18 AVCCAUXRX18 (power), BA19 VTRXPAD18 (power), BA20 AVCCAUXTX18 (power), BA21 VTTXPAD18 (power), BA22 AVCCAUXRX19 (power), BA23 VTRXPAD19 (power), BA24 AVCCAUXTX19 (power), BA25 VTTXPAD19 (power), BA26 AVCCAUXRX20 (power), BA27 VTRXPAD20 (power), BA28 AVCCAUXTX20 (power), BA29 VTTXPAD20 (power), BA30 AVCCAUXRX21 (power), BA31 VTRXPAD21 (power), BA32 AVCCAUXTX21 (power), BA33 VTTXPAD21 (power), BA34 AVCCAUXRX22 (power), BA35 VTRXPAD22 (power), BA36 AVCCAUXTX22 (power), BA37 VTTXPAD22 (power), BA38 AVCCAUXRX23 (power), BA39 VTRXPAD23 (power), BA40 AVCCAUXTX23 (power), BA41 VTTXPAD23 (power), BB2 RXNPAD14 (in), BB3 RXPPAD14 (in), BB4 TXPPAD14 (hiz), BB5 TXNPAD14 (hiz), BB6 RXNPAD15 (in), BB7 RXPPAD15 (in), BB8 TXPPAD15 (hiz), BB9 TXNPAD15 (hiz), BB10 RXNPAD16 (in), BB11 RXPPAD16 (in), BB12 TXPPAD16 (hiz), BB13 TXNPAD16 (hiz), BB14 RXNPAD17 (in), BB15 RXPPAD17 (in), BB16 TXPPAD17 (hiz), BB17 TXNPAD17 (hiz), BB18 RXNPAD18 (in), BB19 RXPPAD18 (in), BB20 TXPPAD18 (hiz), BB21 TXNPAD18 (hiz), BB22 RXNPAD19 (in), BB23 RXPPAD19 (in), BB24 TXPPAD19 (hiz), BB25 TXNPAD19 (hiz), BB26 RXNPAD20 (in), BB27 RXPPAD20 (in), BB28 TXPPAD20 (hiz), BB29 TXNPAD20 (hiz), BB30 RXNPAD21 (in), BB31 RXPPAD21 (in), BB32 TXPPAD21 (hiz), BB33 TXNPAD21 (hiz), BB34 RXNPAD22 (in), BB35 RXPPAD22 (in), BB36 TXPPAD22 (hiz), BB37 TXNPAD22 (hiz), BB38 RXNPAD23 (in), BB39 RXPPAD23 (in), BB40 TXPPAD23 (hiz), BB41 TXNPAD23 (hiz), C4 GNDA11 (power), C8 GNDA10 (power), C12 GNDA9 (power), C16 GNDA8 (power), C21 GNDA7 (power), C22 GNDA6 (power), C27 GNDA5 (power), C31 GNDA4 (power), C35 GNDA3 (power), C39 GNDA2 (power)
part J pins: AA1 VCCAUX (power), AA2 VCCAUX (power), AA16 VCCINT (power), AA27 VCCINT (power), AA41 VCCAUX (power), AA42 VCCAUX (power), AB1 VCCAUX (power), AB2 VCCAUX (power), AB16 VCCINT (power), AB27 VCCINT (power), AB41 VCCAUX (power), AB42 VCCAUX (power), AC1 VCCAUX (power), AC16 VCCINT (power), AC27 VCCINT (power), AC42 VCCAUX (power), AD16 VCCINT (power), AD27 VCCINT (power), AE16 VCCINT (power), AE27 VCCINT (power), AF16 VCCINT (power), AF17 VCCINT (power), AF26 VCCINT (power), AF27 VCCINT (power), AG16 VCCINT (power), AG17 VCCINT (power), AG18 VCCINT (power), AG19 VCCINT (power), AG20 VCCINT (power), AG21 VCCINT (power), AG22 VCCINT (power), AG23 VCCINT (power), AG24 VCCINT (power), AG25 VCCINT (power), AG26 VCCINT (power), AG27 VCCINT (power), AH15 VCCINT (power), AH16 BREFCLKP (power), AH17 VCCINT (power), AH26 VCCINT (power), AH27 VCCINT (power), AH28 VCCINT (power), AJ14 VCCINT (power), AJ15 VCCINT (power), AJ16 BREFCLKN (power), AJ27 VCCINT (power), AJ28 VCCINT (power), AJ29 VCCINT (power), AK13 VCCINT (power), AK30 VCCINT (power), AM11 VCCAUX (power), AM32 VCCAUX (power), AN10 VCCAUX (power), AN33 VCCAUX (power), AT22 BREFCLKN (io), AU22 BREFCLKP (io), AV4 VCCAUX (power), AV8 PWRDWN_B (in), AV35 M0 (in), AV39 VCCAUX (power), AW5 VCCAUX (power), AW8 DONE (io), AW21 VCCAUX (power), AW22 VCCAUX (power), AW35 M2 (in), AW38 VCCAUX (power), AY7 CCLK (io), AY36 M1 (in), C7 TDO (out), C36 TDI (in), D5 VCCAUX (power), D8 RSVD, D21 VCCAUX (power), D22 VCCAUX (power), D35 DXN, D38 VCCAUX (power), E4 VCCAUX (power), E8 VBATT (power), E35 DXP, E39 VCCAUX (power), F8 TMS (in), F16 BREFCLKP (io), F22 BREFCLKN (io), F35 HSWAP_EN (in), G8 TCK (in), G16 BREFCLKN (io), G22 BREFCLKP (io), G35 PROG_B (in), K10 VCCAUX (power), K33 VCCAUX (power), L11 VCCAUX (power), L32 VCCAUX (power), N13 VCCINT (power), N30 VCCINT (power), P14 VCCINT (power), P15 VCCINT (power), P16 VCCINT (power), P27 VCCINT (power), P28 VCCINT (power), P29 VCCINT (power), R15 VCCINT (power), R16 VCCINT (power), R17 VCCINT (power), R26 VCCINT (power), R27 VCCINT (power), R28 VCCINT (power), T16 VCCINT (power), T17 VCCINT (power), T18 VCCINT (power), T19 VCCINT (power), T20 VCCINT (power), T21 VCCINT (power), T22 VCCINT (power), T23 VCCINT (power), T24 VCCINT (power), T25 VCCINT (power), T26 VCCINT (power), T27 VCCINT (power), U16 VCCINT (power), U17 VCCINT (power), U26 VCCINT (power), U27 VCCINT (power), V16 VCCINT (power), V27 VCCINT (power), W16 VCCINT (power), W27 VCCINT (power), Y1 VCCAUX (power), Y16 VCCINT (power), Y27 VCCINT (power), Y42 VCCAUX (power)
part K pins: AA5 GND (power), AA8 GND (power), AA11 GND (power), AA17 GND (power), AA18 GND (power), AA19 GND (power), AA20 GND (power), AA21 GND (power), AA22 GND (power), AA23 GND (power), AA24 GND (power), AA25 GND (power), AA26 GND (power), AA32 GND (power), AA35 GND (power), AA38 GND (power), AB5 GND (power), AB8 GND (power), AB11 GND (power), AB17 GND (power), AB18 GND (power), AB19 GND (power), AB20 GND (power), AB21 GND (power), AB22 GND (power), AB23 GND (power), AB24 GND (power), AB25 GND (power), AB26 GND (power), AB32 GND (power), AB35 GND (power), AB38 GND (power), AC2 GND (power), AC17 GND (power), AC18 GND (power), AC19 GND (power), AC20 GND (power), AC21 GND (power), AC22 GND (power), AC23 GND (power), AC24 GND (power), AC25 GND (power), AC26 GND (power), AC41 GND (power), AD17 GND (power), AD18 GND (power), AD19 GND (power), AD20 GND (power), AD21 GND (power), AD22 GND (power), AD23 GND (power), AD24 GND (power), AD25 GND (power), AD26 GND (power), AE6 GND (power), AE9 GND (power), AE17 GND (power), AE18 GND (power), AE19 GND (power), AE20 GND (power), AE21 GND (power), AE22 GND (power), AE23 GND (power), AE24 GND (power), AE25 GND (power), AE26 GND (power), AE34 GND (power), AE37 GND (power), AF18 GND (power), AF19 GND (power), AF20 GND (power), AF21 GND (power), AF22 GND (power), AF23 GND (power), AF24 GND (power), AF25 GND (power), AG1 GND (power), AG42 GND (power), AH4 GND (power), AH7 GND (power), AH36 GND (power), AH39 GND (power), AJ13 GND (power), AJ30 GND (power), AK14 GND (power), AK29 GND (power), AL1 GND (power), AL42 GND (power), AM21 GND (power), AM22 GND (power), AN4 GND (power), AN39 GND (power), AP9 GND (power), AP34 GND (power), AR1 GND (power), AR8 GND (power), AR21 GND (power), AR22 GND (power), AR35 GND (power), AR42 GND (power), AT7 GND (power), AT36 GND (power), AU6 GND (power), AU18 GND (power), AU25 GND (power), AU37 GND (power), AV5 GND (power), AV21 GND (power), AV22 GND (power), AV38 GND (power), AW4 GND (power), AW11 GND (power), AW15 GND (power), AW28 GND (power), AW32 GND (power), AW39 GND (power), AY1 GND (power), AY2 GND (power), AY3 GND (power), AY40 GND (power), AY41 GND (power), AY42 GND (power), B1 GND (power), B42 GND (power), BA1 GND (power), BA42 GND (power), C1 GND (power), C2 GND (power), C3 GND (power), C40 GND (power), C41 GND (power), C42 GND (power), D4 GND (power), D11 GND (power), D15 GND (power), D28 GND (power), D32 GND (power), D39 GND (power), E5 GND (power), E21 GND (power), E22 GND (power), E38 GND (power), F6 GND (power), F18 GND (power), F25 GND (power), F37 GND (power), G7 GND (power), G36 GND (power), H1 GND (power), H8 GND (power), H21 GND (power), H22 GND (power), H35 GND (power), H42 GND (power), J9 GND (power), J34 GND (power), K4 GND (power), K39 GND (power), L21 GND (power), L22 GND (power), M1 GND (power), M42 GND (power), N14 GND (power), N29 GND (power), P13 GND (power), P30 GND (power), R4 GND (power), R7 GND (power), R36 GND (power), R39 GND (power), T1 GND (power), T42 GND (power), U18 GND (power), U19 GND (power), U20 GND (power), U21 GND (power), U22 GND (power), U23 GND (power), U24 GND (power), U25 GND (power), V6 GND (power), V9 GND (power), V17 GND (power), V18 GND (power), V19 GND (power), V20 GND (power), V21 GND (power), V22 GND (power), V23 GND (power), V24 GND (power), V25 GND (power), V26 GND (power), V34 GND (power), V37 GND (power), W17 GND (power), W18 GND (power), W19 GND (power), W20 GND (power), W21 GND (power), W22 GND (power), W23 GND (power), W24 GND (power), W25 GND (power), W26 GND (power), Y2 GND (power), Y17 GND (power), Y18 GND (power), Y19 GND (power), Y20 GND (power), Y21 GND (power), Y22 GND (power), Y23 GND (power), Y24 GND (power), Y25 GND (power), Y26 GND (power), Y41 GND (power)
part L pins: AM14 NC, AM15 NC, AM28 NC, AM29 NC, AN14 NC, AN15 NC, AN28 NC, AN29 NC, AP15 NC, AP28 NC, AR14 NC, AR15 NC, AR28 NC, AR29 NC, AT14 NC, AT29 NC, AU14 NC, AU29 NC, AV14 NC, AV29 NC, AW14 NC, AW29 NC, D14 NC, D29 NC, E14 NC, E29 NC, F14 NC, F29 NC, G14 NC, G29 NC, H14 NC, H15 NC, H28 NC, H29 NC, J15 NC, J28 NC, K14 NC, K15 NC, K28 NC, K29 NC, L14 NC, L15 NC, L28 NC, L29 NC
part A text: Bank 0
part B text: Bank 1
part C text: Bank 2
part D text: Bank 3
part E text: Bank 4
part F text: Bank 5
part G text: Bank 6
part H text: Bank 7
part I text: TRANSCEIVER CORE

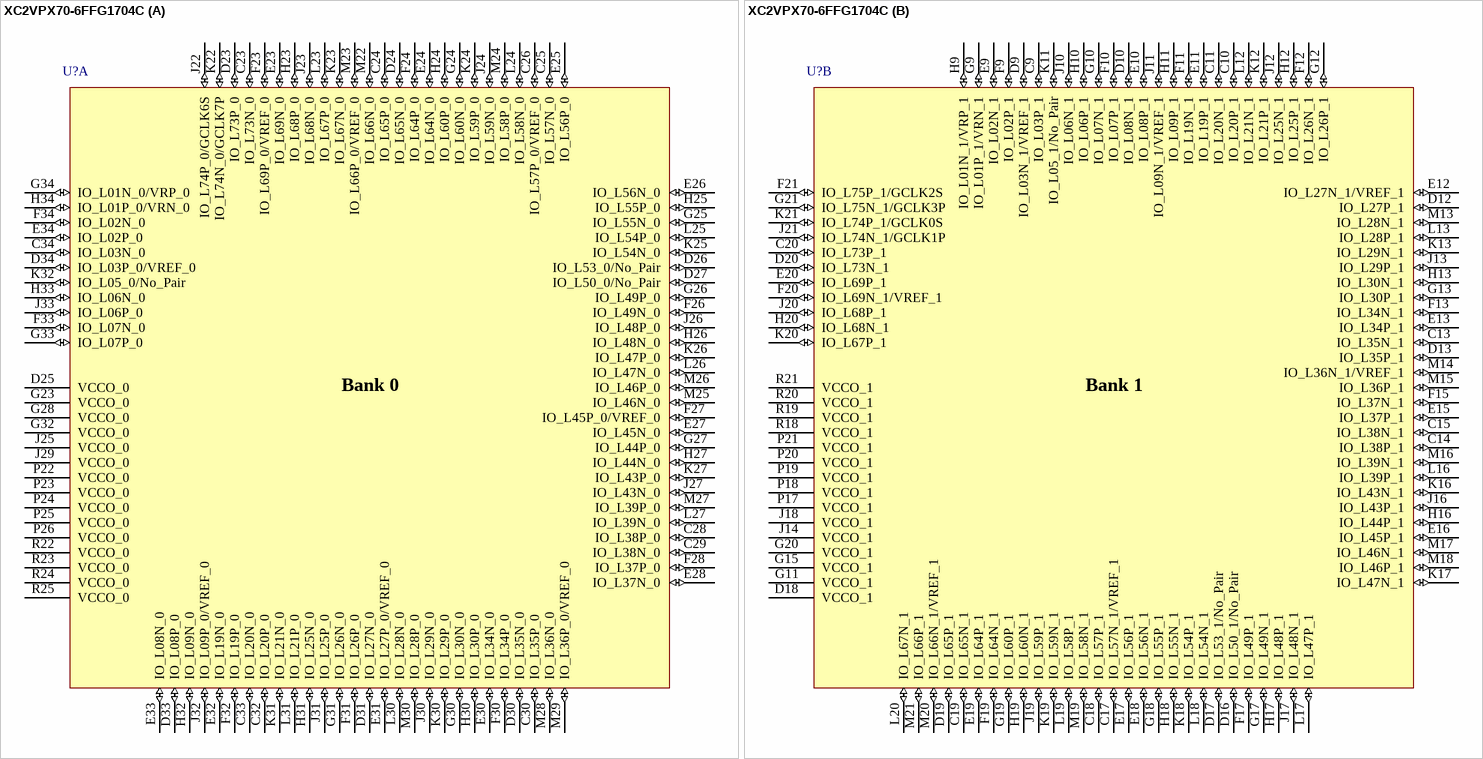
[diagram p102: symbol XC2VPX70-6FFG1704C]

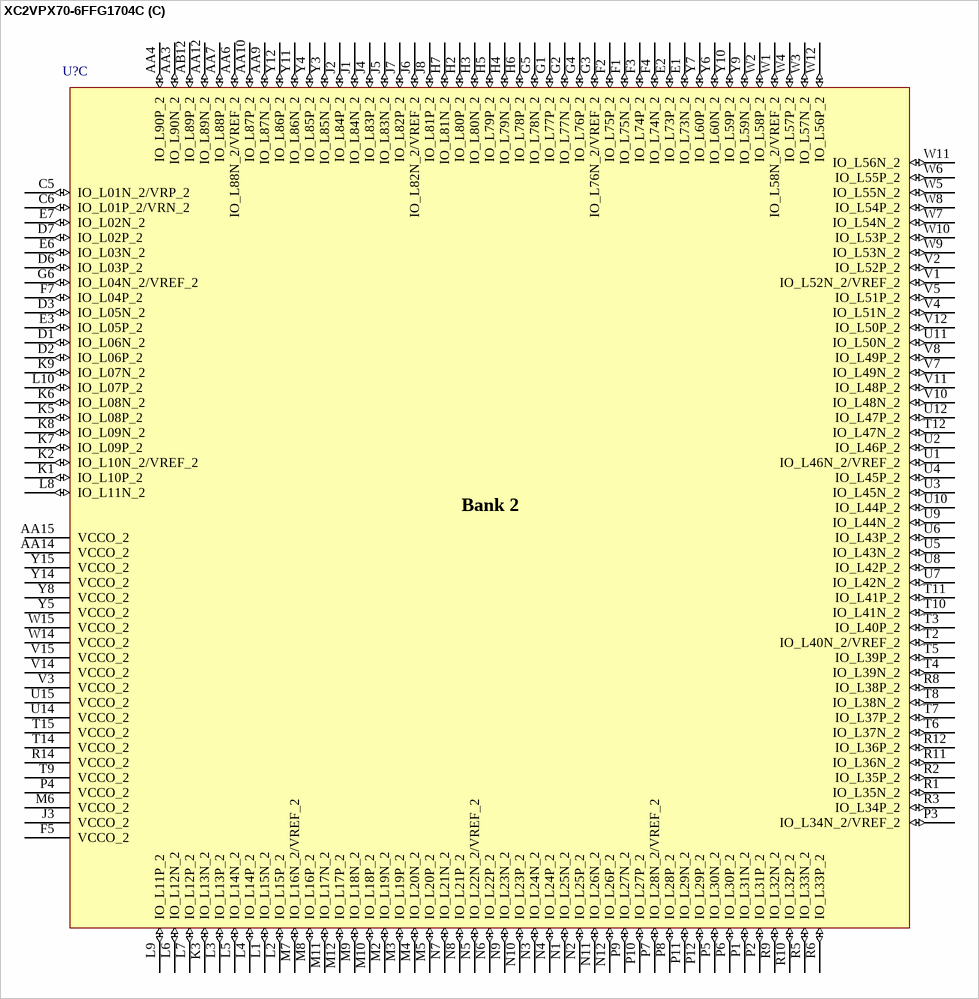
[diagram p103: symbol XC2VPX70-6FFG1704C]

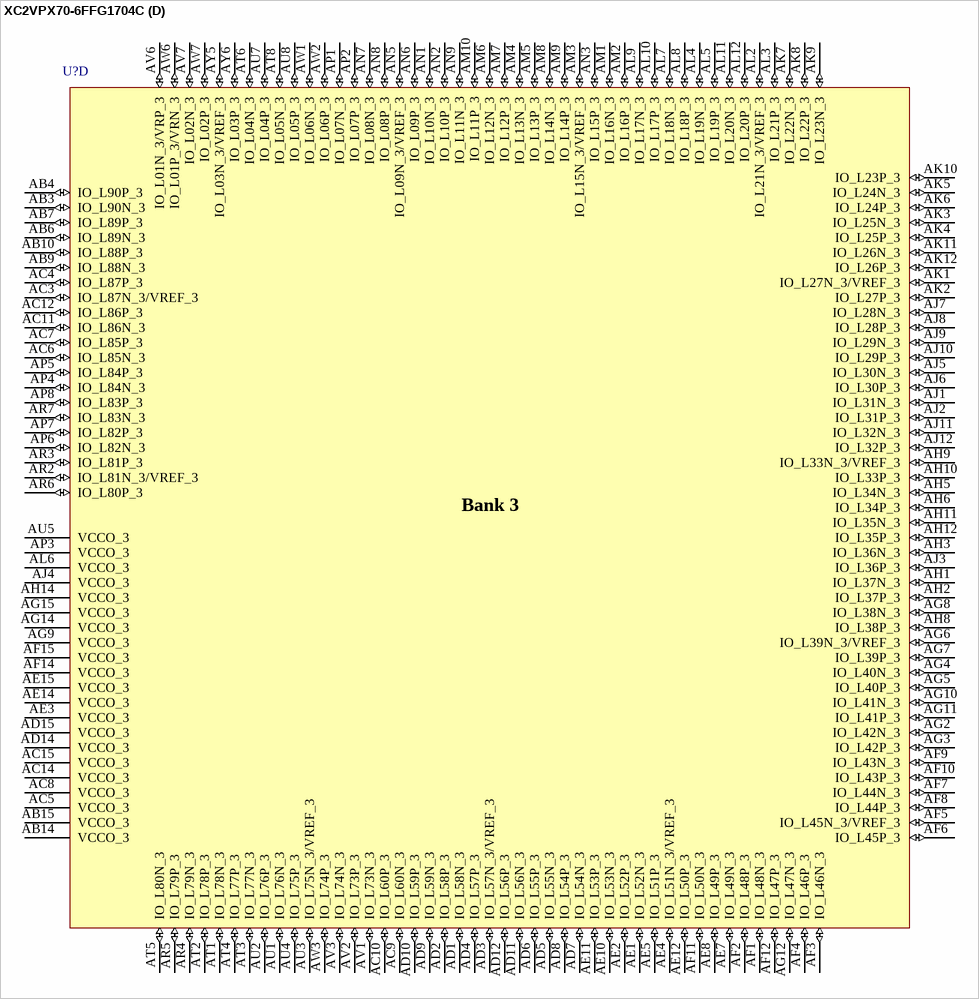
[diagram p104: symbol XC2VPX70-6FFG1704C]

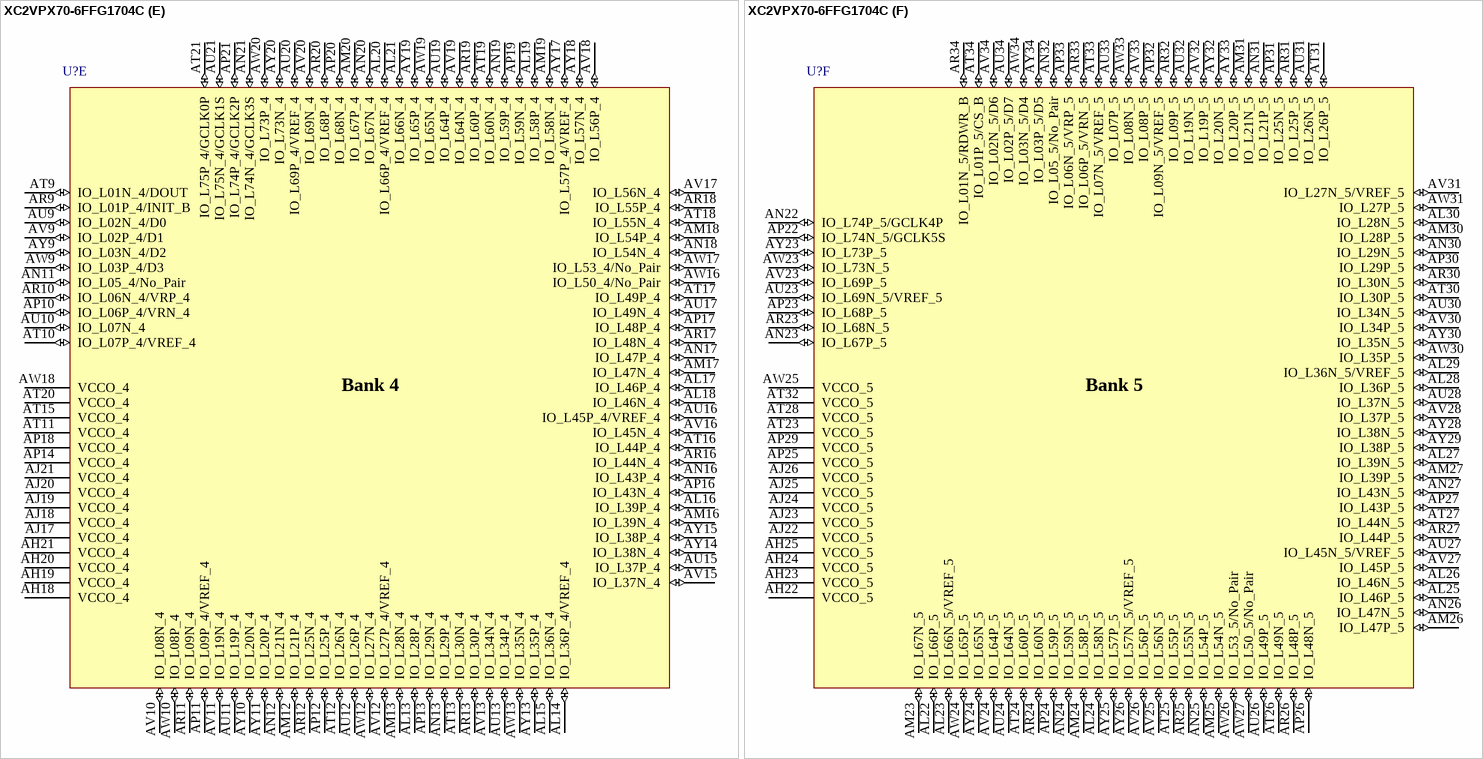
[diagram p105: symbol XC2VPX70-6FFG1704C]

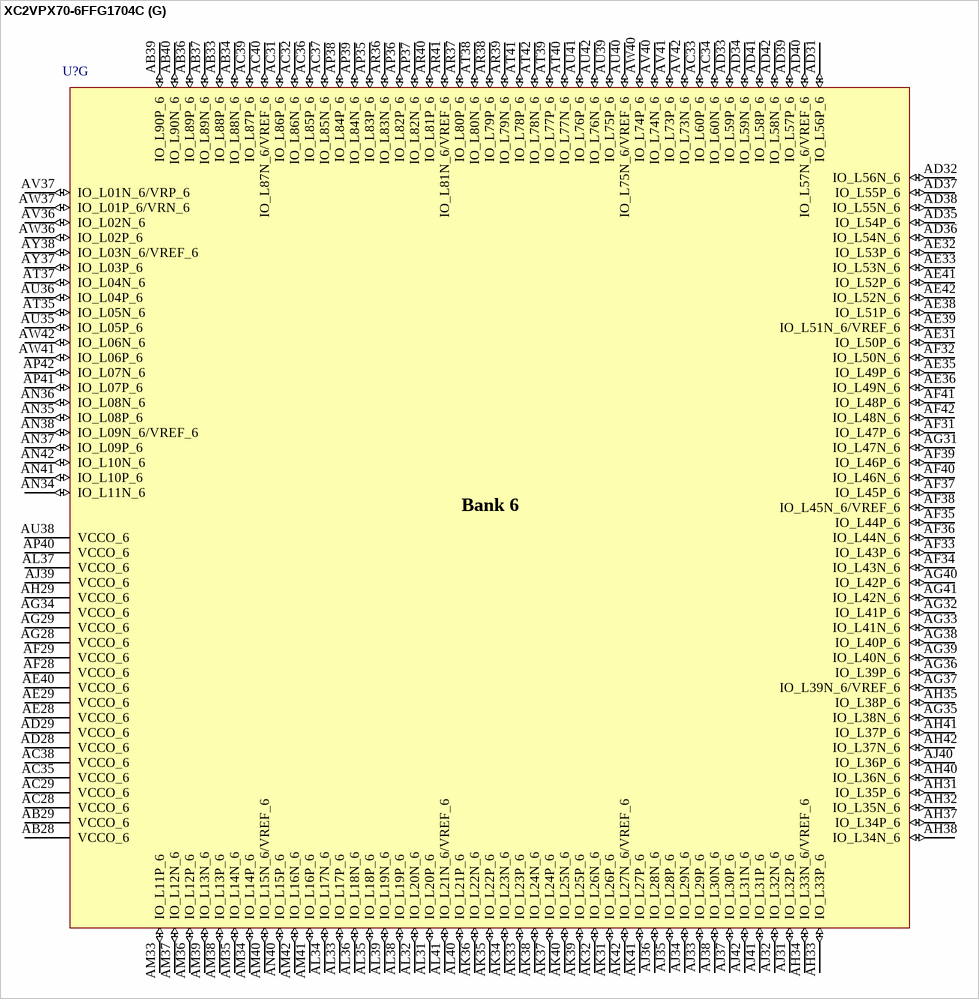
[diagram p106: symbol XC2VPX70-6FFG1704C]

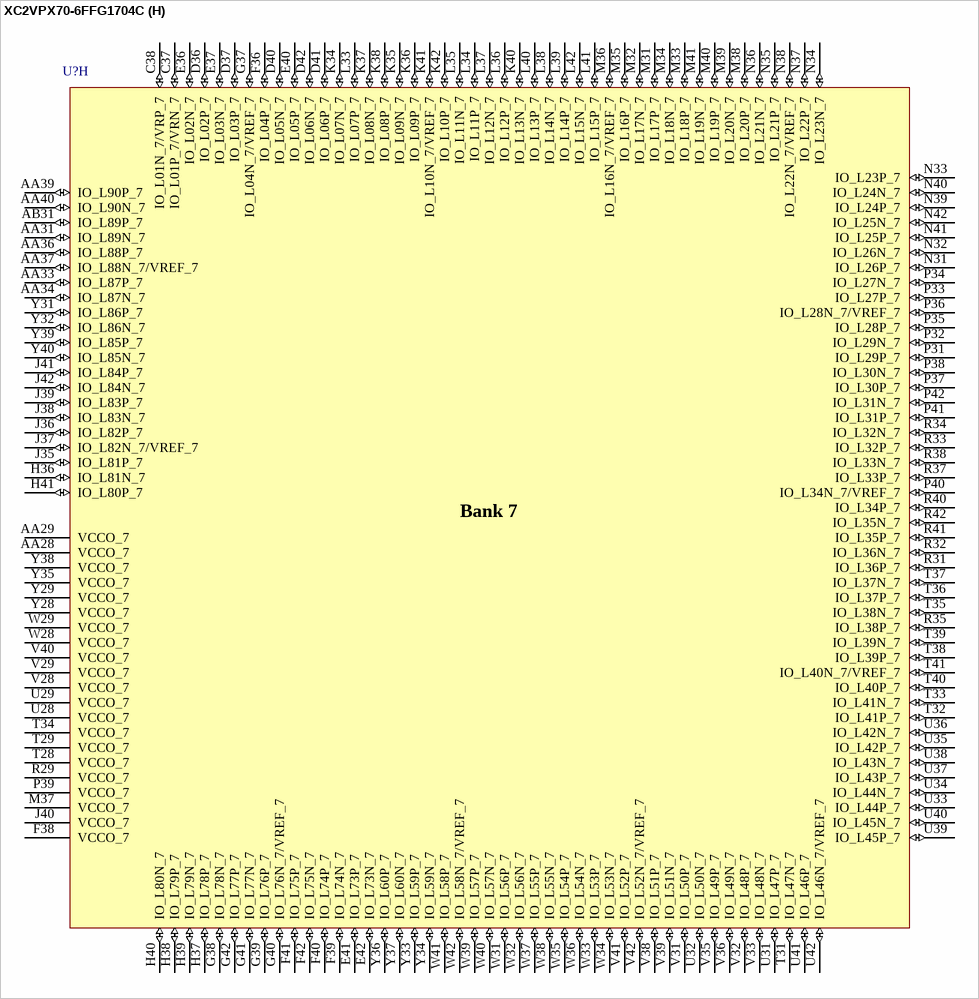
[diagram p107: symbol XC2VPX70-6FFG1704C]

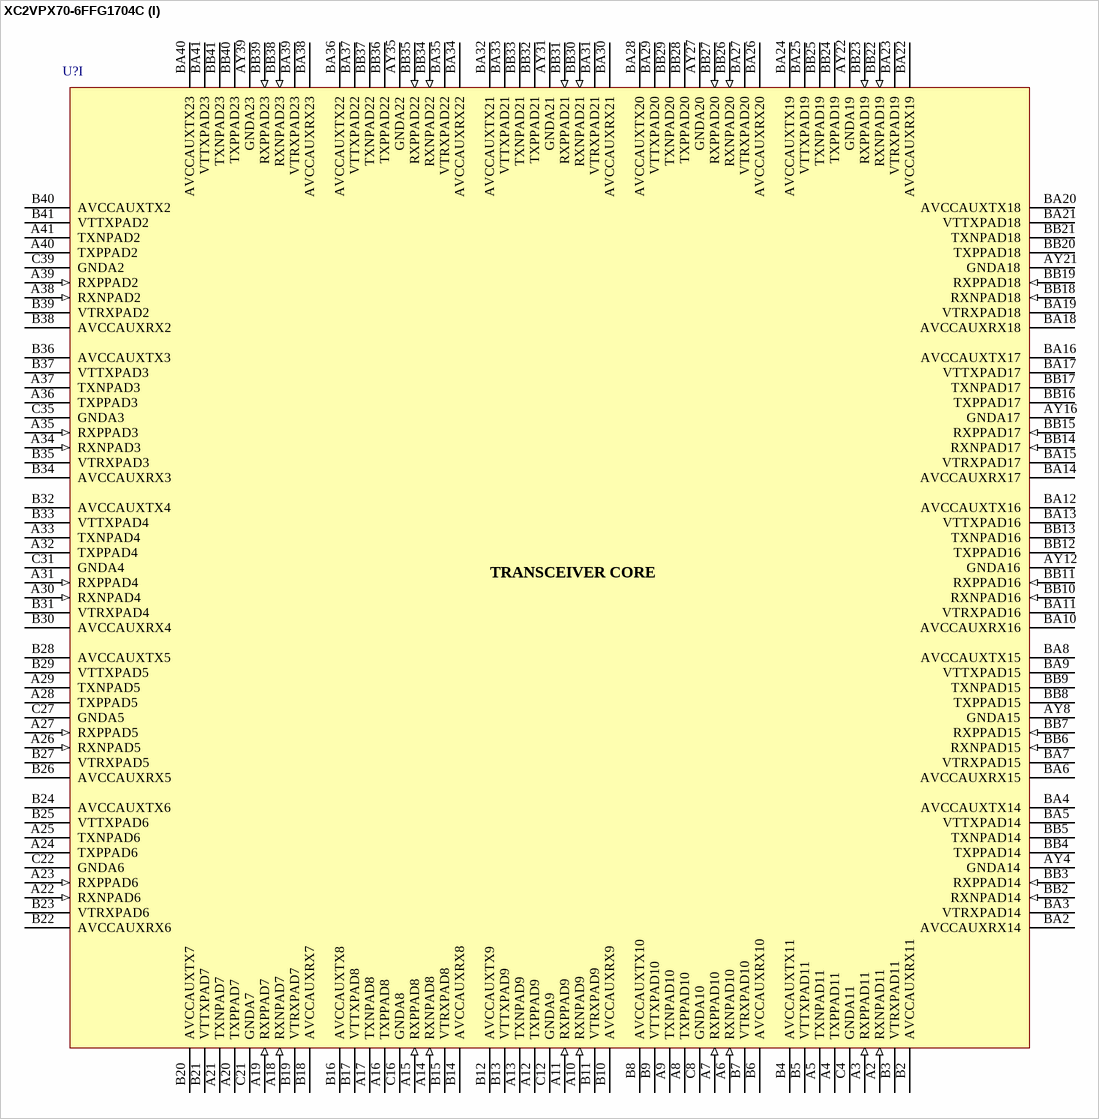
[diagram p108: symbol XC2VPX70-6FFG1704C]

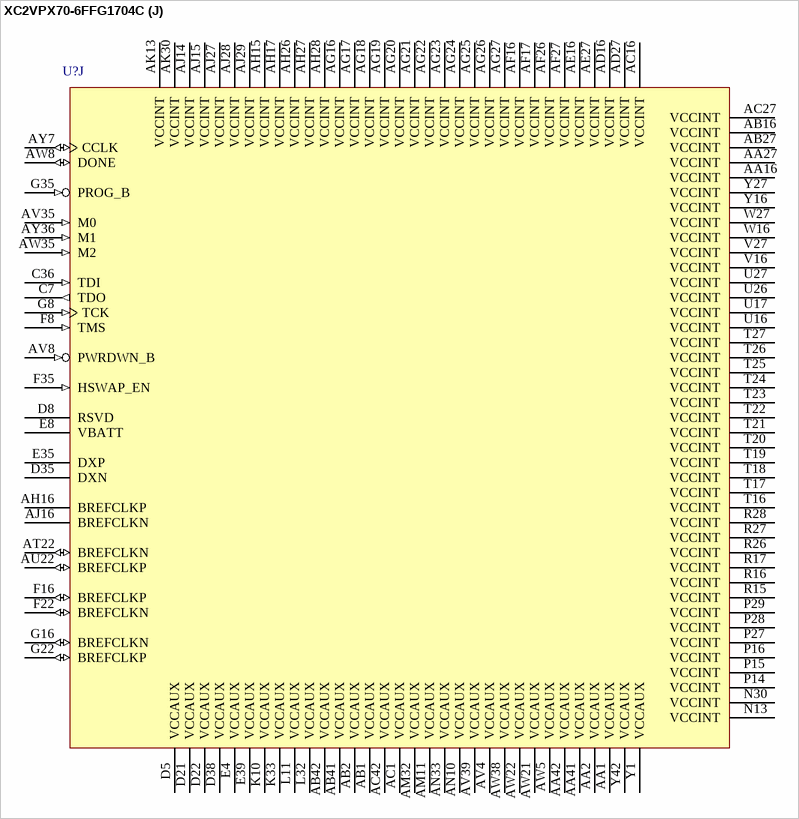
[diagram p109: symbol XC2VPX70-6FFG1704C]

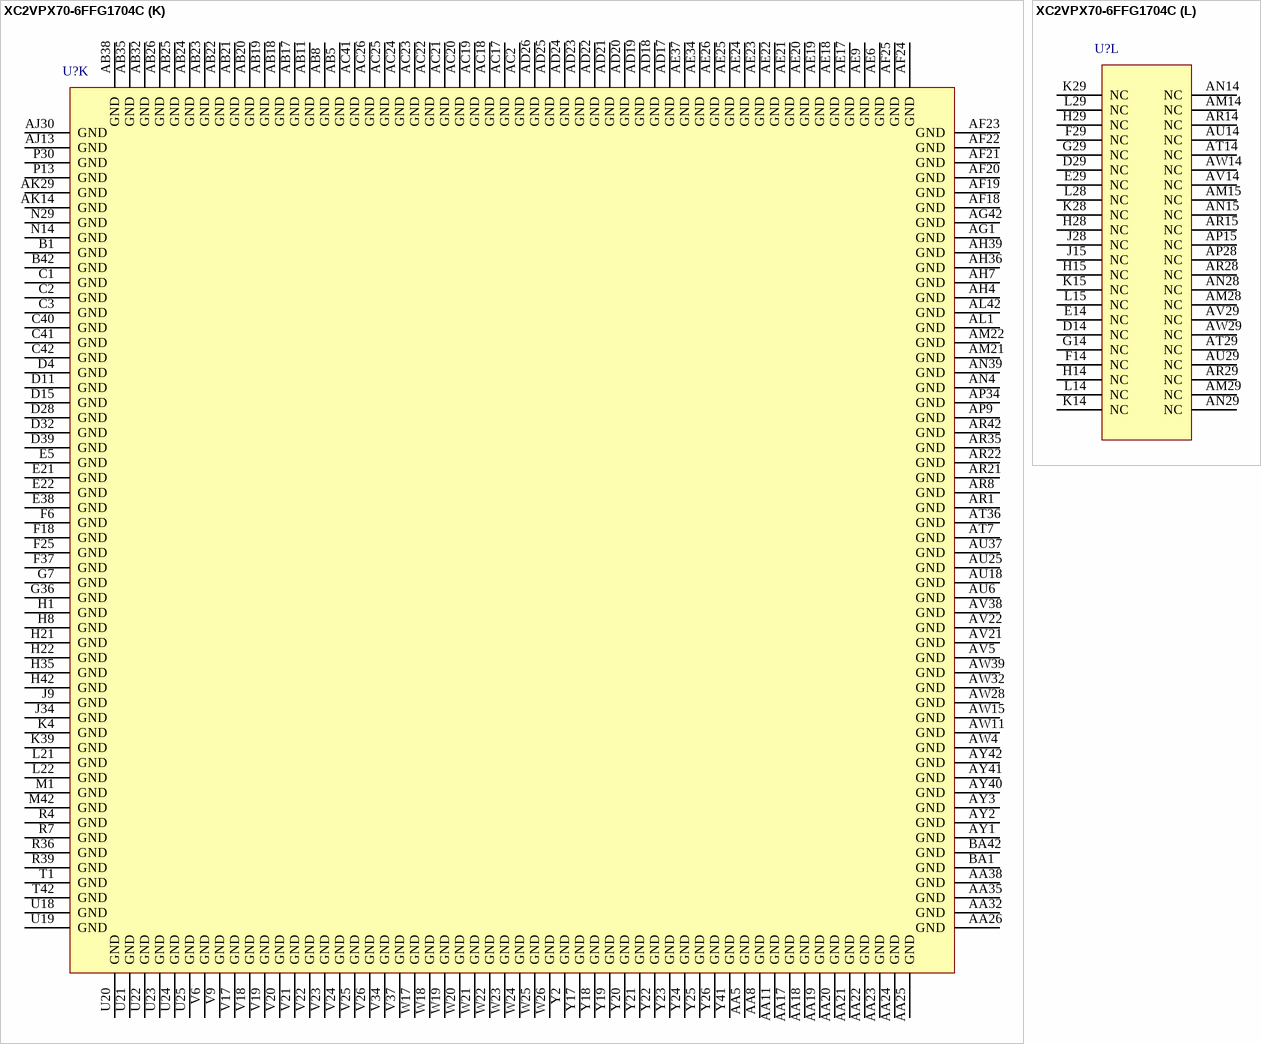
[diagram p110: symbol XC2VPX70-6FFG1704C]